# Altium footprint library PH2-12-UA.PcbLib: 1 footprints
Each footprint in its own frame and in the unit in brackets; x right, y up, seen from the top. Pads: shape width x height; smd on the part's side, far side on the other; paste and mask are expansions set on the pad; w line width, h text height; cw(c..) or ccw(c..) is an arc to the next point about the centre after c.
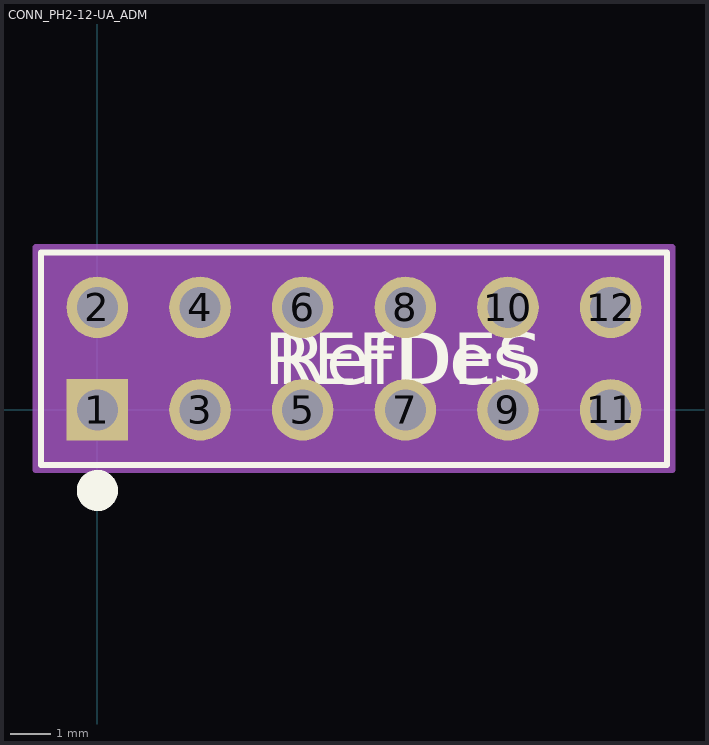
[diagram p0: the footprint, top view; thin cyan lines are the x and y axes]

## CONN_PH2-12-UA_ADM [mil]
pads (12):
  rect 60x60 / inner round 60 / far side rect 60x60 hole 40 paste-30 mask+0: 1(0,0)
  round 60 hole 40 paste-30 mask+0: 2(0,100) 3(100,0) 4(100,100) 5(200,0) 6(200,100) 7(300,0) 8(300,100) 9(400,0) 10(400,100) 11(500,0) 12(500,100)
Top Overlay:
  circle w20: c0,-78.5 r10
  lines w6: -55,-53.5 555,-53.5 555,153.5 -55,153.5 -55,-53.5
  text "RefDes" at 175,25 h50
  text "REFDES" at 162.5,25 h50
Mechanical 13:
  circle w0: c0,-33.5 r10
  lines w1: -50,-48.5 550,-48.5 550,148.5 -50,148.5 -50,-48.5
  text "RefDes2" at 162.5,25 h50
Mechanical 15:
  region: 560,158.5 -60,158.5 -60,-58.5 560,-58.5
  lines w6: -60,-58.5 -60,158.5 560,158.5 560,-58.5 -60,-58.5
3D body "CONN_PH2-12-UA_ADM.step": height 335, standoff -200, extent -50,-150 550,50